# Altium schematic symbol library OK10xx_S V1.1.SCHLIB: 46 symbols
Pins are listed as number, name and electrical type; pins without a type are passive.

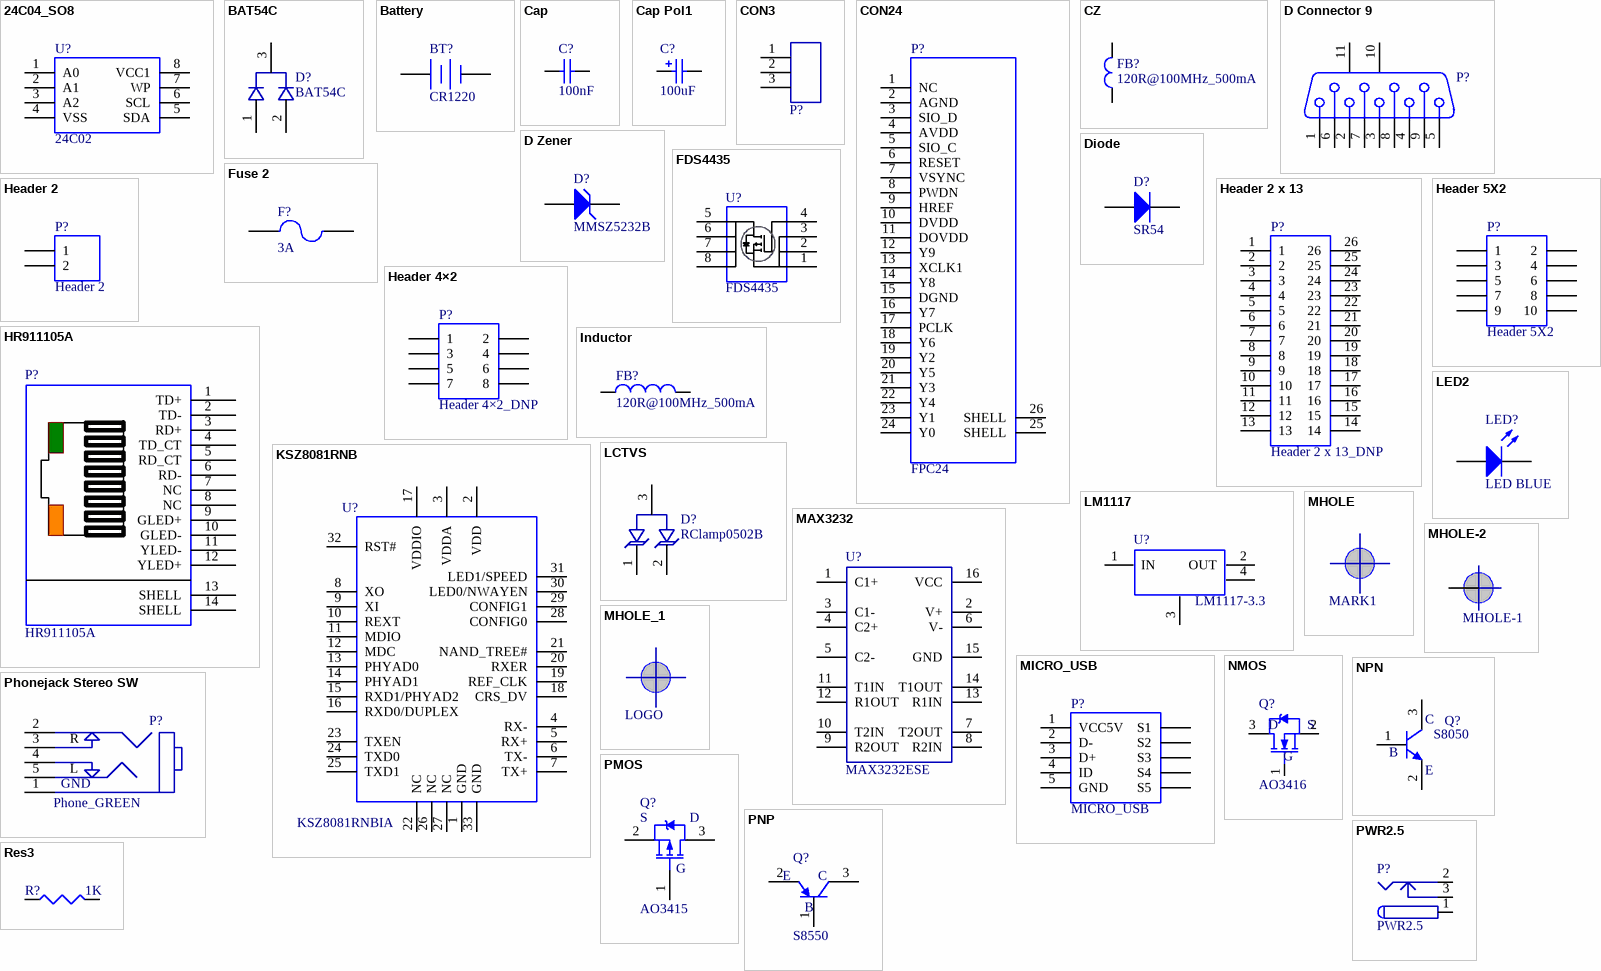
[diagram p0: symbols 24C04_SO8 to Res3]

## 24C04_SO8
designator U?, comment 24C02
footprint 24C04_SO8
pins: 1 A0, 2 A1, 3 A2, 4 VSS, 5 SDA, 6 SCL, 7 WP, 8 VCC1

## BAT54C
designator D?
Value: BAT54C
footprint SOT23
pins: 1, 2, 3

## Battery
designator BT?, comment CR1220
Multicell Battery; Published: 24-Mar-1999; LatestRevisionDate: 17-Jul-2002; LatestRevisionNote: Re-released for DXP Platform.; PackageReference: BAT-2; Publisher: Altium Limited; PackageDescription: Battery; 2 Leads
footprint BH-1220 BATTERY
pins: 1 +, 2 -

## Cap
designator C?, comment 100nF
Capacitor; Published: 8-Jun-2000; LatestRevisionDate: 17-Jul-2002; LatestRevisionNote: Re-released for DXP Platform.; PackageReference: RAD-0.3; Publisher: Altium Limited; PackageDescription: Radial Cap, Thru-Hole; 2 Leads; 0.3 in Pin Spacing; Value: 100nF
simulation model CAP (Capacitor)
signal-integrity model Cap
footprint 0603C+
pins: 1, 2

## Cap Pol1
designator C?, comment 100uF
Polarized Capacitor (Radial); Published: 8-Jun-2000; LatestRevisionDate: 17-Jul-2002; LatestRevisionNote: Re-released for DXP Platform.; PackageReference: RB7.6-15; Publisher: Altium Limited; PackageDescription: Polarized Capacitor (Radial); 2 Leads; Value: 100uF
simulation model CAP (Capacitor)
signal-integrity model Cap Pol
footprint TC3528B
pins: 1, 2
1 alternate drawing of the same symbol

## CON3
designator P?, comment P18  (value not drawn)
footprint SW01
pins: 1 DQ16, 2 DQ17, 3 DQ18

## CON24
designator P?, comment FPC24
footprint FPC24
pins: 1 NC, 2 AGND, 3 SIO_D, 4 AVDD, 5 SIO_C, 6 RESET, 7 VSYNC, 8 PWDN, 9 HREF, 10 DVDD, 11 DOVDD, 12 Y9, 13 XCLK1, 14 Y8, 15 DGND, 16 Y7, 17 PCLK, 18 Y6, 19 Y2, 20 Y5, 21 Y3, 22 Y4, 23 Y1, 24 Y0, 25 SHELL, 26 SHELL

## CZ
designator FB?, comment 120R@100MHz_500mA
Inductor; Code_IEC: 1005; Published: 8-Jun-2000; LatestRevisionDate: 29-May-2009; LatestRevisionNote: IPC-7351 Footprint Added.; PackageReference: 0402-A; Publisher: 120R@100MHz_500mA; PackageDescription: Chip Inductor; Code_JEITA: 0402; value: 120R@100MHz_500mA
simulation model INDUCTOR (Inductor)
signal-integrity model Inductor
footprint 0603R+
pins: 1, 2

## D Connector 9
designator P?, comment DEBUG  (value not drawn)
Receptacle Assembly, 9 Position, Right Angle; PackageDocument: O; Positions: 9; Published: 15-Jun-2001; LatestRevisionDate: 17-Jul-2002; LatestRevisionNote: Re-released for DXP Platform.; DatasheetDocument: 1-Sep-1999; PackageReference: 788750; Publisher: Altium Limited; Orientation: Right Angle; Gender: Receptacle
footprint DSUB1.385-2H9-M
signal-integrity model Connector
pins: 1, 2, 3, 4, 5, 6, 7, 8, 9, 10 MH1, 11 MH2

## D Zener
designator D?, comment MMSZ5232B
Zener Diode; Published: 8-Jun-2000; LatestRevisionDate: 17-Jul-2002; LatestRevisionNote: Re-released for DXP Platform.; PackageReference: DIODE-0.7; Publisher: Altium Limited; PackageDescription: Diode, Thru-Hole; 2 Leads; 0.7 in Pin Spacing
footprint Diode1.6*2.6
simulation model ZENER (Diode)
signal-integrity model D Zener
pins: 1 A, 2 K

## Diode
designator D?, comment SR54
Default Diode; Published: 8-Jun-2000; LatestRevisionDate: 17-Jul-2002; LatestRevisionNote: Re-released for DXP Platform.; PackageVersion: Sep-1996; PackageReference: SMC; Publisher: Altium Limited; PackageDescription: DO-214-AB/SMC; 2 C-Bend Leads; Body 7.9 x 5.9 mm, inc. leads (LxW); Code_JEDEC: DO-214-AB
footprint SMB/DO-214AA
simulation model DIODE (Diode)
signal-integrity model Diode
pins: 1 A, 2 K

## FDS4435
designator U?
footprint FDS4435 (SOIC, 8-Leads, Body 4.90x3.90mm, Pitch 1.27mm, IPC Medium Density)
pins: 1 S, 2 S, 3 S, 4 G, 5 D, 6 D, 7 D, 8 D

## Fuse 2
designator F?, comment 3A
Fuse; Published: 8-Jun-2000; LatestRevisionDate: 17-Jul-2002; LatestRevisionNote: Re-released for DXP Platform.; PackageReference: PIN-W2/E2.8; Publisher: Altium Limited; PackageDescription: Thru-Hole; 2 Leads; Value: 3A
footprint R_1210
simulation model FUSE (Spice Subcircuit)
pins: 1, 2

## Header 2
designator P?
footprint DG128-2P
pins: 1, 2

## Header 2 x 13
designator P?, comment Header 2 x 13_DNP
footprint HDR2X13
pins: 1, 2, 3, 4, 5, 6, 7, 8, 9, 10, 11, 12, 13, 14, 15, 16, 17, 18, 19, 20, 21, 22, 23, 24, 25, 26

## Header 4×2
designator P?, comment Header 4×2_DNP
footprint HDR2X4 (Connector; Header; 4x2 Position)
pins: 1, 2, 3, 4, 5, 6, 7, 8

## Header 5X2
designator P?
Header, 5-Pin, Dual row; LatestRevisionDate: 17-Jul-2002; LatestRevisionNote: Re-released for DXP Platform.; Publisher: Altium Limited
footprint HDR2X5 (Connector; Header; 5x2 Position)
signal-integrity model Connector
pins: 1, 2, 3, 4, 5, 6, 7, 8, 9, 10

## HR911105A
designator P?
footprint RJ-45A12
pins: 1 TD+, 2 TD-, 3 RD+, 4 TD_CT, 5 RD_CT, 6 RD-, 7 NC, 8 NC, 9 GLED+, 10 GLED-, 11 YLED-, 12 YLED+, 13 SHELL, 14 SHELL

## Inductor
designator FB?, comment 120R@100MHz_500mA
Inductor; Code_IEC: 1005; Published: 8-Jun-2000; LatestRevisionDate: 29-May-2009; LatestRevisionNote: IPC-7351 Footprint Added.; PackageReference: 0402-A; Publisher: Altium Limited; PackageDescription: Chip Inductor; Code_JEITA: 0402; Value: 120R@100MHz_500mA
footprint 0603R+
simulation model INDUCTOR (Inductor)
signal-integrity model Inductor
pins: 1, 2

## KSZ8081RNB
designator U?, comment KSZ8081RNBIA
footprint QFN-32
pins: 1 GND, 2 VDD, 3 VDDA, 4 RX-, 5 RX+, 6 TX-, 7 TX+, 8 XO, 9 XI, 10 REXT, 11 MDIO, 12 MDC, 13 PHYAD0, 14 PHYAD1, 15 RXD1/PHYAD2, 16 RXD0/DUPLEX, 17 VDDIO, 18 CRS_DV, 19 REF_CLK, 20 RXER, 21 NAND_TREE#, 22 NC, 23 TXEN, 24 TXD0, 25 TXD1, 26 NC, 27 NC, 28 CONFIG0, 29 CONFIG1, 30 LED0/NWAYEN, 31 LED1/SPEED, 32 RST#, 33 GND

## LCTVS
designator D?, comment RClamp0502B
Value: RClamp0502B
footprint SOT-523 (SOT23, 3-Leads, Body 1.7x1.8mm (max), Pitch 0.50mm, IPC Medium Density)
pins: 1, 2, 3

## LED2
designator LED?, comment BOOK: LED BLUE  (hidden comment: LED_BULE)
Typical RED, GREEN, YELLOW, AMBER GaAs LED; Published: 8-Jun-2000; LatestRevisionDate: 17-Jul-2002; LatestRevisionNote: Re-released for DXP Platform.; PackageDocument: Feb-2002; PackageReference: 3.2X1.6X1.1; Publisher: Altium Limited
footprint LED0603_M1608
simulation model LED2 (Diode)
pins: 1 A, 2 K

## LM1117
designator U?, comment LM1117-3.3
Value: LM1117-3.3
footprint LM1117
pins: 1 IN, 2 OUT, 3 GND, 4

## MAX3232
designator U?, comment MAX3232ESE
footprint SOIC-16N
pins: 1 C1+, 2 V+, 3 C1-, 4 C2+, 5 C2-, 6 V-, 7 T2OUT, 8 R2IN, 9 R2OUT, 10 T2IN, 11 T1IN, 12 R1OUT, 13 R1IN, 14 T1OUT, 15 GND, 16 VCC

## MHOLE
designator Mark?, comment MARK1
footprint Mark Point_circle
footprint MARK POINT

## MHOLE-2
designator M?, comment MHOLE-1
footprint MHOLE_3.3
footprint 3.2mm_hole
pins: 1 EF

## MHOLE_1
designator LOGO?, comment LOGO
footprint LOGO

## MICRO_USB
designator P?
Header, 5-Pin, Dual row; LatestRevisionDate: 17-Jul-2002; LatestRevisionNote: Re-released for DXP Platform.; Publisher: Altium Limited; VALUE: MICRO_USB
footprint microUSB
signal-integrity model Connector
pins: 1 VCC5V, 2 D-, 3 D+, 4 ID, 5 GND, 6 S1, 7 S2, 8 S3, 9 S4, 10 S5

## NMOS
designator Q?, comment AO3416
N-Channel Power MOSFET; Note: Pin 2 is electrically connected to pin 4.; Published: 8-Jun-2000; LatestRevisionDate: 17-Jul-2002; LatestRevisionNote: Re-released for DXP Platform.; DatasheetVersion: PD-9.814; PackageVersion: Feb-1997; PackageReference: TO-220AB; Publisher: Altium Limited; PackageDescription: TO, Thru-Hole, Vertical, Heatsink Mounted; 3 In-Line Leads; Pitch 2.54 mm; ComponentLink1Description: Manufacturer Link; ComponentLink1URL: http://www.irf.com/; VALUE: AO3416
footprint SOT95P245X110-3N
simulation model IRF1010 (Spice Subcircuit)
pins: 1 G, 2 S, 3 D

## NPN
designator Q?, comment S8050
NPN Bipolar Transistor; Published: 8-Jun-2000; LatestRevisionDate: 17-Jul-2002; LatestRevisionNote: Re-released for DXP Platform.; PackageReference: TO-226-AA; Publisher: Altium Limited; PackageDescription: TO, Flat Index; 3 In-Line, Axial Leads; Body Dia. 4.8mm; Leads 0.55 x 0.51 mm (max); Code_JEDEC: TO-226-AA; VALUE: S8050
footprint SOT95P245X110-3N (SOT23, 3-Leads, Body 2.90x2.45mm, Pitch 0.95mm, IPC Medium Density)
simulation model NPN
signal-integrity model NPN
pins: 1 B, 2 E, 3 C

## Phonejack Stereo SW
designator P?, comment Phone_GREEN
VALUE: HEDAJACK
footprint PHONEJACK SW
pins: 1 GND, 2, 3, 4, 5
text: R; L

## PMOS
designator Q?, comment AO3415
N-Channel Power MOSFET; Note: Pin 2 is electrically connected to pin 4.; Published: 8-Jun-2000; LatestRevisionDate: 17-Jul-2002; LatestRevisionNote: Re-released for DXP Platform.; DatasheetVersion: PD-9.814; PackageVersion: Feb-1997; PackageReference: TO-220AB; Publisher: Altium Limited; PackageDescription: TO, Thru-Hole, Vertical, Heatsink Mounted; 3 In-Line Leads; Pitch 2.54 mm; ComponentLink1Description: Manufacturer Link; ComponentLink1URL: http://www.irf.com/; VALUE: AO3415
footprint SOT95P245X110-3N (Footprint not found)
simulation model IRF1010 (Spice Subcircuit)
pins: 1 G, 2 S, 3 D

## PNP
designator Q?, comment S8550
NPN Bipolar Transistor; Published: 8-Jun-2000; LatestRevisionDate: 17-Jul-2002; LatestRevisionNote: Re-released for DXP Platform.; PackageReference: TO-226-AA; Publisher: Altium Limited; PackageDescription: TO, Flat Index; 3 In-Line, Axial Leads; Body Dia. 4.8mm; Leads 0.55 x 0.51 mm (max); Code_JEDEC: TO-226-AA; VALUE: S8550
footprint SOT95P245X110-3N (SOT23, 3-Leads, Body 2.90x2.45mm, Pitch 0.95mm, IPC Medium Density)
simulation model NPN
signal-integrity model NPN
pins: 1 B, 2 E, 3 C

## PWR2.5
designator P?
footprint JACK-2.5MM_B
pins: 1 ADJ, 2 ADJ, 3 ADJ

## Res3
designator R?, comment 1K
Resistor; Published: 8-Jun-2000; LatestRevisionDate: 29-May-2009; LatestRevisionNote: IPC-7351 Footprint Added.; PackageReference: J1-0603; Publisher: Altium Limited; PackageDescription: Chip Resistor; Value: 1K
simulation model RESISTOR (Resistor)
signal-integrity model Res
footprint 0603R+
pins: 1, 2

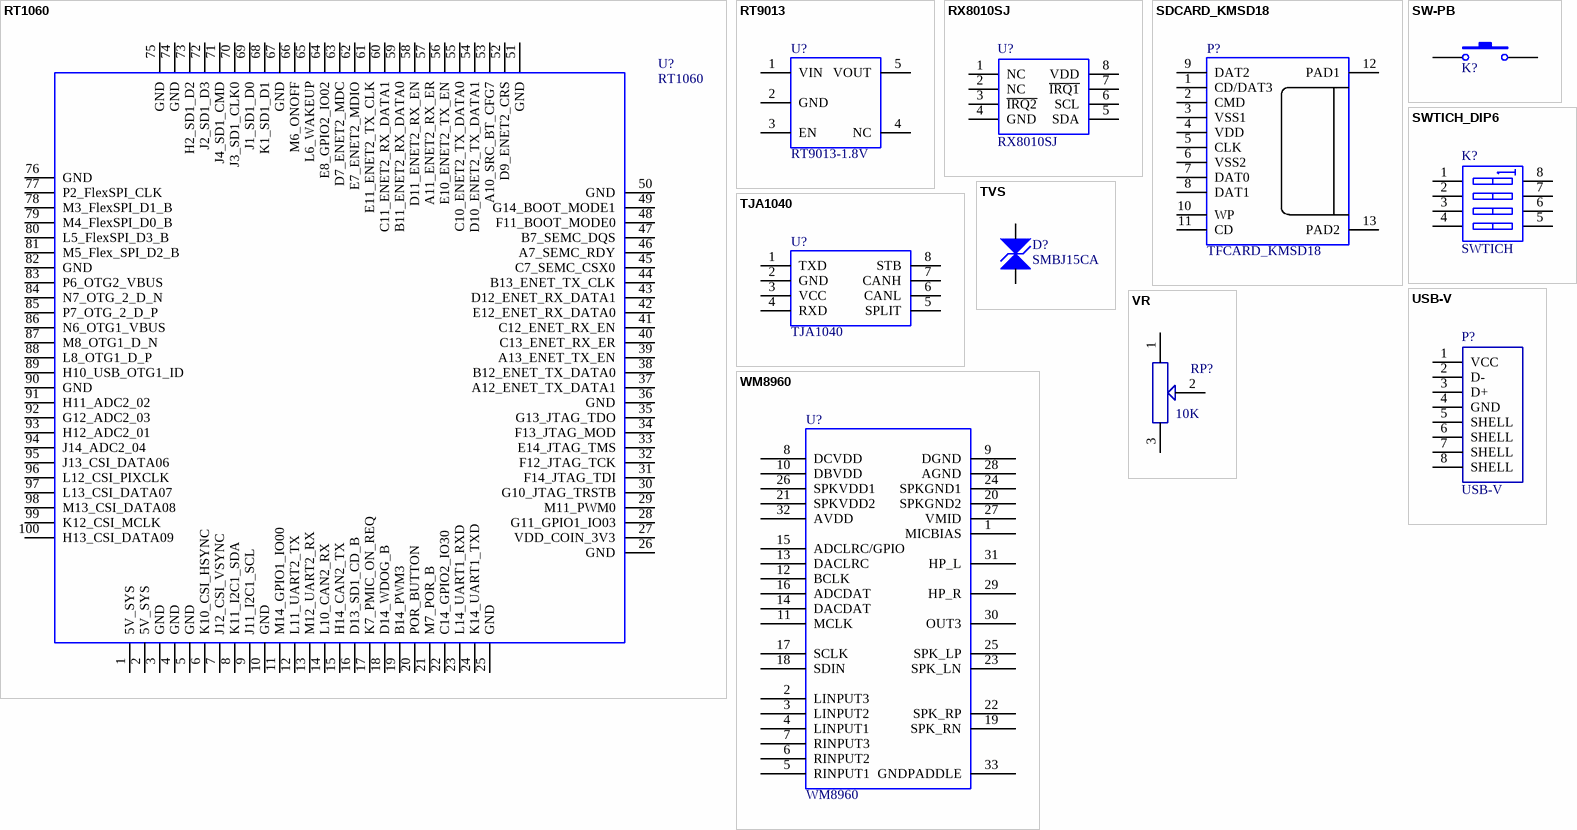
[diagram p1: symbols RT1060 to WM8960]

## RT1060
designator U?
pins: 1 5V_SYS, 2 5V_SYS, 3 GND, 4 GND, 5 GND, 6 K10_CSI_HSYNC, 7 J12_CSI_VSYNC, 8 K11_I2C1_SDA, 9 J11_I2C1_SCL, 10 GND, 11 M14_GPIO1_IO00, 12 L11_UART2_TX, 13 M12_UART2_RX, 14 L10_CAN2_RX, 15 H14_CAN2_TX, 16 D13_SD1_CD_B, 17 K7_PMIC_ON_REQ, 18 D14_WDOG_B, 19 B14_PWM3, 20 POR_BUTTON, 21 M7_POR_B, 22 C14_GPIO2_IO30, 23 L14_UART1_RXD, 24 K14_UART1_TXD, 25 GND, 26 GND, 27 VDD_COIN_3V3, 28 G11_GPIO1_IO03, 29 M11_PWM0, 30 G10_JTAG_TRSTB, 31 F14_JTAG_TDI, 32 F12_JTAG_TCK, 33 E14_JTAG_TMS, 34 F13_JTAG_MOD, 35 G13_JTAG_TDO, 36 GND, 37 A12_ENET_TX_DATA1, 38 B12_ENET_TX_DATA0, 39 A13_ENET_TX_EN, 40 C13_ENET_RX_ER, 41 C12_ENET_RX_EN, 42 E12_ENET_RX_DATA0, 43 D12_ENET_RX_DATA1, 44 B13_ENET_TX_CLK, 45 C7_SEMC_CSX0, 46 A7_SEMC_RDY, 47 B7_SEMC_DQS, 48 F11_BOOT_MODE0, 49 G14_BOOT_MODE1, 50 GND, 51 GND, 52 D9_ENET2_CRS, 53 A10_SRC_BT_CFG7, 54 D10_ENET2_TX_DATA1, 55 C10_ENET2_TX_DATA0, 56 E10_ENET2_TX_EN, 57 A11_ENET2_RX_ER, 58 D11_ENET2_RX_EN, 59 B11_ENET2_RX_DATA0, 60 C11_ENET2_RX_DATA1, 61 E11_ENET2_TX_CLK, 62 E7_ENET2_MDIO, 63 D7_ENET2_MDC, 64 E8_GPIO2_IO02, 65 L6_WAKEUP, 66 M6_ONOFF, 67 GND, 68 K1_SD1_D1, 69 J1_SD1_D0, 70 J3_SD1_CLK0, 71 J4_SD1_CMD, 72 J2_SD1_D3, 73 H2_SD1_D2, 74 GND, 75 GND, 76 GND, 77 P2_FlexSPI_CLK, 78 M3_FlexSPI_D1_B, 79 M4_FlexSPI_D0_B, 80 L5_FlexSPI_D3_B, 81 M5_Flex_SPI_D2_B, 82 GND, 83 P6_OTG2_VBUS, 84 N7_OTG_2_D_N, 85 P7_OTG_2_D_P, 86 N6_OTG1_VBUS, 87 M8_OTG1_D_N, 88 L8_OTG1_D_P, 89 H10_USB_OTG1_ID, 90 GND, 91 H11_ADC2_02, 92 G12_ADC2_03, 93 H12_ADC2_01, 94 J14_ADC2_04, 95 J13_CSI_DATA06, 96 L12_CSI_PIXCLK, 97 L13_CSI_DATA07, 98 M13_CSI_DATA08, 99 K12_CSI_MCLK, 100 H13_CSI_DATA09

## RT9013
designator U?, comment RT9013-1.8V
footprint SOT95P280X129-5N (SOT23, 5-Leads, Body 2.90x2.80mm, Pitch 0.95mm, IPC Medium Density)
pins: 1 VIN, 2 GND, 3 EN, 4 NC, 5 VOUT

## RX8010SJ
designator U?
Value: RX8010SJ
footprint RX8010SJ
pins: 1 NC, 2 NC, 3 ~{IRQ2}, 4 GND, 5 SDA, 6 SCL, 7 ~{IRQ1}, 8 VDD

## SDCARD_KMSD18
designator P?, comment TFCARD_KMSD18
footprint TF-CARD
pins: 1 CD/DAT3, 2 CMD, 3 VSS1, 4 VDD, 5 CLK, 6 VSS2, 7 DAT0, 8 DAT1, 9 DAT2, 10 WP, 11 CD, 12 PAD1, 13 PAD2

## SW-PB
designator K?, comment 6*6*5侧位2脚带支架  (value not drawn)
Switch; Published: 24-Mar-1999; LatestRevisionDate: 17-Jul-2002; LatestRevisionNote: Re-released for DXP Platform.; PackageReference: SPST-2; Publisher: Altium Limited
footprint SW-01
pins: 1, 2

## SWTICH_DIP6
designator K?, comment SWTICH
footprint SMD_4
pins: 1 A1, 2 A2, 3 A3, 4 A4, 5 B4, 6 B3, 7 B2, 8 B1

## TJA1040
designator U?
footprint SOP127P600X175-8N (SOP, 8-Leads, Body 4.90x3.90mm, Pitch 1.27mm, IPC Medium Density)
pins: 1 TXD, 2 GND, 3 VCC, 4 RXD, 5 SPLIT, 6 CANL, 7 CANH, 8 STB

## TVS
designator D?, comment SMBJ15CA
Value: SMBJ15CA
footprint SMB/DO-214AA
pins: 1, 2

## USB-V
designator P?
footprint USB-C
pins: 1 VCC, 2 D-, 3 D+, 4 GND, 5 SHELL, 6 SHELL, 7 SHELL, 8 SHELL

## VR
designator RP?, comment value 10K  (hidden comment: VR-3296W)
footprint 3296W
pins: 1 VCC, 2 VCC, 3 VCC

## WM8960
designator U?
footprint WM8960
pins: 1 MICBIAS, 2 LINPUT3, 3 LINPUT2, 4 LINPUT1, 5 RINPUT1, 6 RINPUT2, 7 RINPUT3, 8 DCVDD, 9 DGND, 10 DBVDD, 11 MCLK, 12 BCLK, 13 DACLRC, 14 DACDAT, 15 ADCLRC/GPIO, 16 ADCDAT, 17 SCLK, 18 SDIN, 19 SPK_RN, 20 SPKGND2, 21 SPKVDD2, 22 SPK_RP, 23 SPK_LN, 24 SPKGND1, 25 SPK_LP, 26 SPKVDD1, 27 VMID, 28 AGND, 29 HP_R, 30 OUT3, 31 HP_L, 32 AVDD, 33 GNDPADDLE